# EAGLE library part AT25SF641 (library ds_ic_memory)
64Mbit, 2.7V Minimum SPI Serial Flash Memory with Dual I/O Support
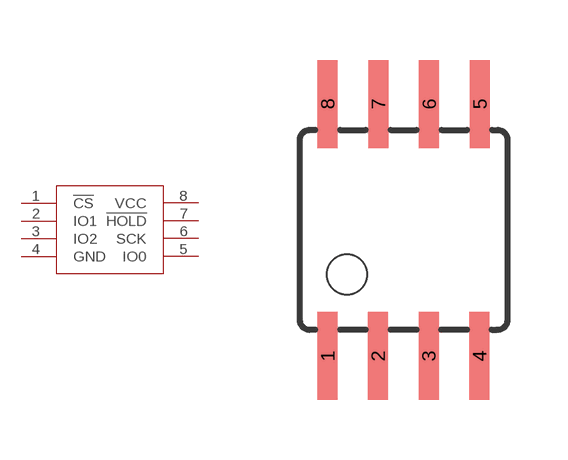
[diagram p7: symbol with the pads of SOIC8; footprint SOIC8]

Designator prefix -

## AT25SF641  [SOIC8]
1  !CS
2  IO1
3  IO2
4  GND
5  IO0
6  SCK
7  !HOLD
8  VCC

## Footprint SOIC8 (pad centres in mm)
smd 0.5 x 2.2: 1 -1.905,-3.154; 2 -0.645,-3.154; 3 0.625,-3.154; 4 1.895,-3.154; 5 1.905,3.154; 6 0.635,3.154; 7 -0.635,3.154; 8 -1.905,3.154